# Altium footprint library RectangularConnectors.PcbLib: 154 footprints (part 6 of 10)
Each footprint in its own frame and in the unit in brackets; x right, y up, seen from the top. Pads: shape width x height; smd on the part's side, far side on the other; paste and mask are expansions set on the pad; w line width, h text height; cw(c..) or ccw(c..) is an arc to the next point about the centre after c.
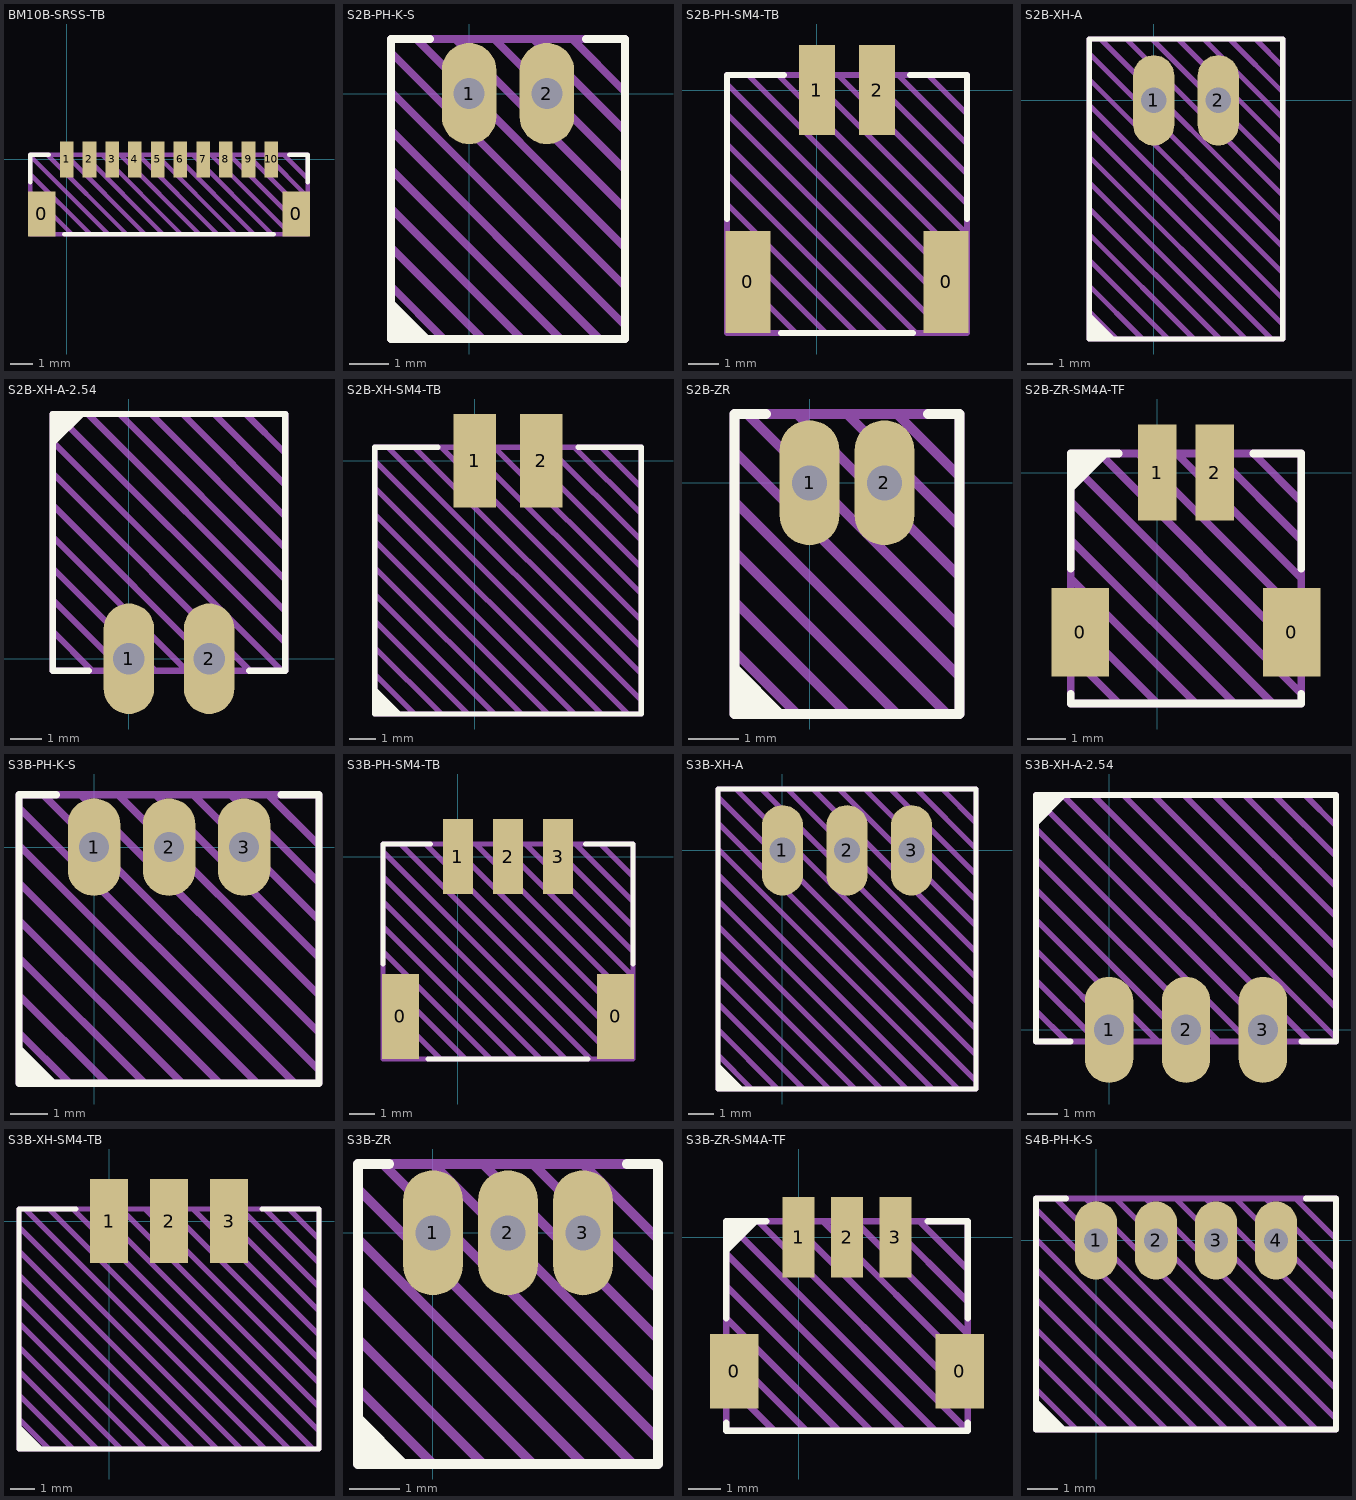
[diagram p5: the footprints below, top view; thin cyan lines are the x and y axes]

## BM10B-SRSS-TB [mm] "SH1.0"
pads (12):
  rect 1.2x2 smd: 0(-1.1,-2.4) 0(10.1,-2.4)
  rect 0.6x1.6 smd: 1(0,0) 2(1,0) 3(2,0) 4(3,0) 5(4,0) 6(5,0) 7(6,0) 8(7,0) 9(8,0) 10(9,0)
Top Overlay:
  lines w0.2: -1.6,-1 -1.6,0.2 -0.8,0.2 ; -0.1,-3.3 9.1,-3.3 ; 9.8,0.2 10.6,0.2 10.6,-1
Top Draw:
  lines w0.2: -1.6,-2.25 -0.55,-3.3 ; -1.6,-1.45 0.25,-3.3 ; -1.6,-0.65 1.05,-3.3 ; -1.6,0.15 1.85,-3.3 ; -0.85,0.2 2.65,-3.3 ; -0.05,0.2 3.45,-3.3 ; 0.75,0.2 4.25,-3.3 ; 1.55,0.2 5.05,-3.3 ; 2.35,0.2 5.85,-3.3 ; 3.15,0.2 6.65,-3.3 ; 3.95,0.2 7.45,-3.3 ; 4.75,0.2 8.25,-3.3 ; 5.55,0.2 9.05,-3.3 ; 6.35,0.2 9.85,-3.3 ; 7.15,0.2 10.6,-3.25 ; 7.95,0.2 10.6,-2.45 ; 8.75,0.2 10.6,-1.65 ; 9.55,0.2 10.6,-0.85 ; -1.6,-3.3 -1.6,0.2 10.6,0.2 10.6,-3.3 -1.6,-3.3
Top Info:
  text "'.Comment'" at 1.314,-4.537 h0.75
3D body "1734595-10.step": height 4.3, standoff 0, extent -1.65,-3.35 10.65,0.25

## S2B-PH-K-S [mm] "PH2.0 PTH Right Angle"
pads (2):
  oval 1.4x2.6 hole 0.8: 1(0,0) 2(2,0)
Top Overlay:
  region: -0.96,-6.3 -2,-5.26 -2,-6.3
  lines w0.2: -1,1.4 -2,1.4 -2,-6.3 4,-6.3 4,1.4 3,1.4
Top Draw:
  lines w0.2: -2,-4.95 -0.65,-6.3 ; -2,-3.95 0.35,-6.3 ; -2,-2.95 1.35,-6.3 ; -2,-1.95 2.35,-6.3 ; -2,-0.95 3.35,-6.3 ; -2,0.05 4,-5.95 ; -2,1.05 4,-4.95 ; -1.35,1.4 4,-3.95 ; -0.35,1.4 4,-2.95 ; 0.65,1.4 4,-1.95 ; 1.65,1.4 4,-0.95 ; 2.65,1.4 4,0.05 ; -2,-6.3 -2,1.4 4,1.4 4,-6.3 -2,-6.3
Top Info:
  text "'.Comment'" at -3.249,-7.783 h1
3D body "S2B-PH-K-S.stp": height 4.62, standoff -3.38, extent -1.95,-6.25 3.95,1.35

## S2B-PH-SM4-TB [mm] "PH2.0 SMT Right Angle"
pads (4):
  rect 1.5x3.4 smd: 0(-2.3,-6.4) 0(4.3,-6.4)
  rect 1.2x3 smd: 1(0,0) 2(2,0)
Top Overlay:
  lines w0.2: -3,-4.3 -3,0.5 -1.1,0.5 ; -1.2,-8.1 3.2,-8.1 ; 3.1,0.5 5,0.5 5,-4.3
Top Draw:
  lines w0.2: -3,-6.8 -1.7,-8.1 ; -3,-5.8 -0.7,-8.1 ; -3,-4.8 0.3,-8.1 ; -3,-3.8 1.3,-8.1 ; -3,-2.8 2.3,-8.1 ; -3,-1.8 3.3,-8.1 ; -3,-0.8 4.3,-8.1 ; -3,0.2 5,-7.8 ; -2.3,0.5 5,-6.8 ; -1.3,0.5 5,-5.8 ; -0.3,0.5 5,-4.8 ; 0.7,0.5 5,-3.8 ; 1.7,0.5 5,-2.8 ; 2.7,0.5 5,-1.8 ; 3.7,0.5 5,-0.8 ; -3,-8.1 5,-8.1 5,0.5 -3,0.5 -3,-8.1
Top Info:
  text "'.Comment'" at -3.249,-9.583 h1
3D body "S2B-PH-SM4-TB.step": height 5.52, standoff 0.02, extent -2.95,-8.1 4.95,0.5

## S2B-XH-A [mm] "XH2.5 PTH Right Angle"
pads (2):
  oval 1.6x3.5 hole 1: 1(0,0) 2(2.5,0)
Top Overlay:
  region: -1.46,-9.25 -2.5,-8.21 -2.5,-9.25
  lines w0.2: -2.5,-9.25 5,-9.25 5,2.375 -2.5,2.375 -2.5,-9.25
Top Draw:
  lines w0.2: -2.5,-8.188 -1.438,-9.25 ; -2.5,-7.188 -0.438,-9.25 ; -2.5,-6.188 0.562,-9.25 ; -2.5,-5.188 1.562,-9.25 ; -2.5,-4.188 2.562,-9.25 ; -2.5,-3.188 3.562,-9.25 ; -2.5,-2.188 4.562,-9.25 ; -2.5,-1.188 5,-8.688 ; -2.5,-0.188 5,-7.688 ; -2.5,0.813 5,-6.687 ; -2.5,1.813 5,-5.687 ; -2.062,2.375 5,-4.687 ; -1.062,2.375 5,-3.687 ; -0.062,2.375 5,-2.687 ; 0.938,2.375 5,-1.687 ; 1.938,2.375 5,-0.687 ; 2.938,2.375 5,0.313 ; 3.938,2.375 5,1.313 ; -2.5,-9.25 5,-9.25 5,2.375 -2.5,2.375 -2.5,-9.25
Top Info:
  text "'.Comment'" at -2.999,-10.708 h1
3D body "S2B-XH-A.step": height 5.77, standoff -3.48, extent -2.45,-9.2 4.95,2.3

## S2B-XH-A-2.54 [mm] "XH2.54 PTH Right Angle"
pads (2):
  oval 1.6x3.5 hole 1: 1(0,0) 2(2.54,0)
Top Overlay:
  region: -2.413,6.707 -1.373,7.747 -2.413,7.747
  lines w0.2: -1.27,-0.381 -2.413,-0.381 -2.413,7.747 4.953,7.747 4.953,-0.381 3.81,-0.381
Top Draw:
  lines w0.2: -2.413,0.866 -1.166,-0.381 ; -2.413,1.866 -0.166,-0.381 ; -2.413,2.866 0.834,-0.381 ; -2.413,3.866 1.834,-0.381 ; -2.413,4.866 2.834,-0.381 ; -2.413,5.866 3.834,-0.381 ; -2.413,6.866 4.834,-0.381 ; -2.294,7.747 4.953,0.5 ; -1.294,7.747 4.953,1.5 ; -0.294,7.747 4.953,2.5 ; 0.706,7.747 4.953,3.5 ; 1.706,7.747 4.953,4.5 ; 2.706,7.747 4.953,5.5 ; 3.706,7.747 4.953,6.5 ; -2.413,-0.381 -2.413,7.747 4.953,7.747 4.953,-0.381 -2.413,-0.381
Top Info:
  text "'.Comment'" at -2.979,-3.25 h1
3D body "JST - XH - Thru (R) - 2Pin - 2.54mm.stp": height 5.84, standoff -3.38, extent -2.337,-0.325 4.877,7.711

## S2B-XH-SM4-TB [mm] "XH2.5 SMT Right Angle"
pads (2):
  rect 1.6x3.5 smd: 1(0,0) 2(2.5,0)
Top Overlay:
  region: -3.75,-8.46 -2.71,-9.5 -3.75,-9.5
  lines w0.2: -1.375,0.5 -3.75,0.5 -3.75,-9.5 6.25,-9.5 6.25,0.5 3.875,0.5
Top Draw:
  lines w0.2: -3.75,-8 -2.25,-9.5 ; -3.75,-7 -1.25,-9.5 ; -3.75,-6 -0.25,-9.5 ; -3.75,-5 0.75,-9.5 ; -3.75,-4 1.75,-9.5 ; -3.75,-3 2.75,-9.5 ; -3.75,-2 3.75,-9.5 ; -3.75,-1 4.75,-9.5 ; -3.75,0 5.75,-9.5 ; -3.25,0.5 6.25,-9 ; -2.25,0.5 6.25,-8 ; -1.25,0.5 6.25,-7 ; -0.25,0.5 6.25,-6 ; 0.75,0.5 6.25,-5 ; 1.75,0.5 6.25,-4 ; 2.75,0.5 6.25,-3 ; 3.75,0.5 6.25,-2 ; 4.75,0.5 6.25,-1 ; -3.75,-9.5 -3.75,0.5 6.25,0.5 6.25,-9.5 -3.75,-9.5
Top Info:
  text "'.Comment'" at -2.999,-10.958 h1
3D body "S2B-XH-SM4-TB.step": height 6, standoff 0, extent -3.75,-9.5 6.25,0.5

## S2B-ZR [mm] "ZH1.5 PTH Right Angle"
pads (2):
  oval 1.2x2.5 hole 0.7: 1(0,0) 2(1.5,0)
Top Overlay:
  region: -0.46,-4.625 -1.5,-3.585 -1.5,-4.625
  lines w0.2: -0.875,1.375 -1.5,1.375 -1.5,-4.625 3,-4.625 3,1.375 2.375,1.375
Top Draw:
  lines w0.2: -1.5,-3.375 -0.25,-4.625 ; -1.5,-2.375 0.75,-4.625 ; -1.5,-1.375 1.75,-4.625 ; -1.5,-0.375 2.75,-4.625 ; -1.5,0.625 3,-3.875 ; -1.25,1.375 3,-2.875 ; -0.25,1.375 3,-1.875 ; 0.75,1.375 3,-0.875 ; 1.75,1.375 3,0.125 ; -1.5,-4.625 3,-4.625 3,1.375 -1.5,1.375 -1.5,-4.625
Top Info:
  text "'.Comment'" at -2.436,-5.812 h0.75
3D body "S2B-ZR.step": height 3.72, standoff -2.68, extent -1.5,-4.6 3,1.4

## S2B-ZR-SM4A-TF [mm] "ZH1.5 SMT Right Angle"
pads (4):
  rect 1.5x2.3 smd: 0(-2,-4.15) 0(3.5,-4.15)
  rect 1x2.5 smd: 1(0,0) 2(1.5,0)
Top Overlay:
  region: -1.21,0.5 -2.25,-0.54 -2.25,0.5
  lines w0.2: -2.25,-5.75 -2.25,-6 3.75,-6 3.75,-5.75 ; -2.25,-2.5 -2.25,0.5 -1,0.5 ; 2.5,0.5 3.75,0.5 3.75,-2.5
Top Draw:
  lines w0.2: -2.25,-4.75 -1,-6 ; -2.25,-3.75 0,-6 ; -2.25,-2.75 1,-6 ; -2.25,-1.75 2,-6 ; -2.25,-0.75 3,-6 ; -2.25,0.25 3.75,-5.75 ; -1.5,0.5 3.75,-4.75 ; -0.5,0.5 3.75,-3.75 ; 0.5,0.5 3.75,-2.75 ; 1.5,0.5 3.75,-1.75 ; 2.5,0.5 3.75,-0.75 ; -2.25,-6 3.75,-6 3.75,0.5 -2.25,0.5 -2.25,-6
Top Info:
  text "'.Comment'" at -2.436,-7.187 h0.75
3D body "S2B-ZR-SM4A-TF.step": height 3.72, standoff 0.02, extent -2.25,-6 3.75,0.5

## S3B-PH-K-S [mm] "PH2.0 PTH Right Angle"
pads (3):
  oval 1.4x2.6 hole 0.8: 1(0,0) 2(2,0) 3(4,0)
Top Overlay:
  region: -0.96,-6.3 -2,-5.26 -2,-6.3
  lines w0.2: -1,1.4 -2,1.4 -2,-6.3 6,-6.3 6,1.4 ; 5,1.4 6,1.4 ; 6,1.4 6,1.4
Top Draw:
  lines w0.2: -2,-4.95 -0.65,-6.3 ; -2,-3.95 0.35,-6.3 ; -2,-2.95 1.35,-6.3 ; -2,-1.95 2.35,-6.3 ; -2,-0.95 3.35,-6.3 ; -2,0.05 4.35,-6.3 ; -2,1.05 5.35,-6.3 ; -1.35,1.4 6,-5.95 ; -0.35,1.4 6,-4.95 ; 0.65,1.4 6,-3.95 ; 1.65,1.4 6,-2.95 ; 2.65,1.4 6,-1.95 ; 3.65,1.4 6,-0.95 ; 4.65,1.4 6,0.05 ; -2,-6.3 -2,1.4 6,1.4 6,-6.3 -2,-6.3
Top Info:
  text "'.Comment'" at -2.249,-7.783 h1
3D body "S3B-PH-K-S.stp": height 4.62, standoff -3.38, extent -1.95,-6.25 5.95,1.35

## S3B-PH-SM4-TB [mm] "PH2.0 SMT Right Angle"
pads (5):
  rect 1.5x3.4 smd: 0(-2.3,-6.4) 0(6.3,-6.4)
  rect 1.2x3 smd: 1(0,0) 2(2,0) 3(4,0)
Top Overlay:
  lines w0.2: -3,-4.3 -3,0.5 -1.1,0.5 ; -1.2,-8.1 5.2,-8.1 ; 5.1,0.5 7,0.5 7,-4.3
Top Draw:
  lines w0.2: -3,-6.8 -1.7,-8.1 ; -3,-5.8 -0.7,-8.1 ; -3,-4.8 0.3,-8.1 ; -3,-3.8 1.3,-8.1 ; -3,-2.8 2.3,-8.1 ; -3,-1.8 3.3,-8.1 ; -3,-0.8 4.3,-8.1 ; -3,0.2 5.3,-8.1 ; -2.3,0.5 6.3,-8.1 ; -1.3,0.5 7,-7.8 ; -0.3,0.5 7,-6.8 ; 0.7,0.5 7,-5.8 ; 1.7,0.5 7,-4.8 ; 2.7,0.5 7,-3.8 ; 3.7,0.5 7,-2.8 ; 4.7,0.5 7,-1.8 ; 5.7,0.5 7,-0.8 ; -3,-8.1 7,-8.1 7,0.5 -3,0.5 -3,-8.1
Top Info:
  text "'.Comment'" at -2.249,-9.583 h1
3D body "S3B-PH-SM4-TB.step": height 5.52, standoff 0.02, extent -2.95,-8.1 6.95,0.5

## S3B-XH-A [mm] "XH2.5 PTH Right Angle"
pads (3):
  oval 1.6x3.5 hole 1: 1(0,0) 2(2.5,0) 3(5,0)
Top Overlay:
  region: -1.46,-9.25 -2.5,-8.21 -2.5,-9.25
  lines w0.2: -2.5,-9.25 -2.5,2.375 7.5,2.375 7.5,-9.25 -2.5,-9.25
Top Draw:
  lines w0.2: -2.5,-7.938 -1.188,-9.25 ; -2.5,-6.938 -0.188,-9.25 ; -2.5,-5.938 0.812,-9.25 ; -2.5,-4.938 1.812,-9.25 ; -2.5,-3.938 2.812,-9.25 ; -2.5,-2.938 3.812,-9.25 ; -2.5,-1.938 4.812,-9.25 ; -2.5,-0.938 5.812,-9.25 ; -2.5,0.062 6.812,-9.25 ; -2.5,1.062 7.5,-8.938 ; -2.5,2.063 7.5,-7.938 ; -1.812,2.375 7.5,-6.937 ; -0.812,2.375 7.5,-5.937 ; 0.188,2.375 7.5,-4.937 ; 1.188,2.375 7.5,-3.937 ; 2.188,2.375 7.5,-2.937 ; 3.188,2.375 7.5,-1.937 ; 4.188,2.375 7.5,-0.937 ; 5.188,2.375 7.5,0.063 ; 6.188,2.375 7.5,1.063 ; -2.5,-9.25 -2.5,2.375 7.5,2.375 7.5,-9.25 -2.5,-9.25
Top Info:
  text "'.Comment'" at -1.749,-10.708 h1
3D body "S3B-XH-A.step": height 5.77, standoff -3.48, extent -2.45,-9.2 7.45,2.3

## S3B-XH-A-2.54 [mm] "XH2.54 PTH Right Angle"
pads (3):
  oval 1.6x3.5 hole 1: 1(0,0) 2(2.54,0) 3(5.08,0)
Top Overlay:
  region: -2.413,6.707 -1.373,7.747 -2.413,7.747
  lines w0.2: -1.27,-0.381 -2.413,-0.381 -2.413,7.747 7.493,7.747 7.493,-0.381 6.35,-0.381
Top Draw:
  lines w0.2: -2.413,0.636 -1.396,-0.381 ; -2.413,1.636 -0.396,-0.381 ; -2.413,2.636 0.604,-0.381 ; -2.413,3.636 1.604,-0.381 ; -2.413,4.636 2.604,-0.381 ; -2.413,5.636 3.604,-0.381 ; -2.413,6.636 4.604,-0.381 ; -2.413,7.636 5.604,-0.381 ; -1.524,7.747 6.604,-0.381 ; -0.524,7.747 7.493,-0.27 ; 0.476,7.747 7.493,0.73 ; 1.476,7.747 7.493,1.73 ; 2.476,7.747 7.493,2.73 ; 3.476,7.747 7.493,3.73 ; 4.476,7.747 7.493,4.73 ; 5.476,7.747 7.493,5.73 ; 6.476,7.747 7.493,6.73 ; -2.413,-0.381 -2.413,7.747 7.493,7.747 7.493,-0.381 -2.413,-0.381
Top Info:
  text "'.Comment'" at -1.709,-3.25 h1
3D body "JST - XH - Thru (R) - 3Pin - 2.54mm.stp": height 5.84, standoff -3.38, extent -2.337,-0.325 7.417,7.712

## S3B-XH-SM4-TB [mm] "XH2.5 SMT Right Angle"
pads (3):
  rect 1.6x3.5 smd: 1(0,0) 2(2.5,0) 3(5,0)
Top Overlay:
  region: -3.75,-8.46 -2.71,-9.5 -3.75,-9.5
  lines w0.2: -1.375,0.5 -3.75,0.5 -3.75,-9.5 8.75,-9.5 8.75,0.5 6.375,0.5
Top Draw:
  lines w0.2: -3.75,-8.25 -2.5,-9.5 ; -3.75,-7.25 -1.5,-9.5 ; -3.75,-6.25 -0.5,-9.5 ; -3.75,-5.25 0.5,-9.5 ; -3.75,-4.25 1.5,-9.5 ; -3.75,-3.25 2.5,-9.5 ; -3.75,-2.25 3.5,-9.5 ; -3.75,-1.25 4.5,-9.5 ; -3.75,-0.25 5.5,-9.5 ; -3.5,0.5 6.5,-9.5 ; -2.5,0.5 7.5,-9.5 ; -1.5,0.5 8.5,-9.5 ; -0.5,0.5 8.75,-8.75 ; 0.5,0.5 8.75,-7.75 ; 1.5,0.5 8.75,-6.75 ; 2.5,0.5 8.75,-5.75 ; 3.5,0.5 8.75,-4.75 ; 4.5,0.5 8.75,-3.75 ; 5.5,0.5 8.75,-2.75 ; 6.5,0.5 8.75,-1.75 ; 7.5,0.5 8.75,-0.75 ; -3.75,-9.5 8.75,-9.5 8.75,0.5 -3.75,0.5 -3.75,-9.5
Top Info:
  text "'.Comment'" at -1.749,-10.958 h1
3D body "S3B-XH-SM4-TB.step": height 6, standoff 0, extent -3.75,-9.5 8.75,0.5

## S3B-ZR [mm] "ZH1.5 PTH Right Angle"
pads (3):
  oval 1.2x2.5 hole 0.7: 1(0,0) 2(1.5,0) 3(3,0)
Top Overlay:
  region: -0.46,-4.625 -1.5,-3.585 -1.5,-4.625
  lines w0.2: -0.875,1.375 -1.5,1.375 -1.5,-4.625 4.5,-4.625 4.5,1.375 3.875,1.375
Top Draw:
  lines w0.2: -1.5,-3.125 0,-4.625 ; -1.5,-2.125 1,-4.625 ; -1.5,-1.125 2,-4.625 ; -1.5,-0.125 3,-4.625 ; -1.5,0.875 4,-4.625 ; -1,1.375 4.5,-4.125 ; 0,1.375 4.5,-3.125 ; 1,1.375 4.5,-2.125 ; 2,1.375 4.5,-1.125 ; 3,1.375 4.5,-0.125 ; -1.5,-4.625 4.5,-4.625 4.5,1.375 -1.5,1.375 -1.5,-4.625
Top Info:
  text "'.Comment'" at -1.686,-5.812 h0.75
3D body "S3B-ZR.step": height 3.72, standoff -2.68, extent -1.5,-4.6 4.5,1.4

## S3B-ZR-SM4A-TF [mm] "ZH1.5 SMT Right Angle"
pads (5):
  rect 1.5x2.3 smd: 0(-2,-4.15) 0(5,-4.15)
  rect 1x2.5 smd: 1(0,0) 2(1.5,0) 3(3,0)
Top Overlay:
  region: -1.21,0.5 -2.25,-0.54 -2.25,0.5
  lines w0.2: -2.25,-5.75 -2.25,-6 5.25,-6 5.25,-5.75 ; -2.25,-2.5 -2.25,0.5 -1,0.5 ; 4,0.5 5.25,0.5 5.25,-2.5
Top Draw:
  lines w0.2: -2.25,-4.5 -0.75,-6 ; -2.25,-3.5 0.25,-6 ; -2.25,-2.5 1.25,-6 ; -2.25,-1.5 2.25,-6 ; -2.25,-0.5 3.25,-6 ; -1.25,0.5 5.25,-6 ; -0.25,0.5 5.25,-5 ; 0.75,0.5 5.25,-4 ; 1.75,0.5 5.25,-3 ; 2.75,0.5 5.25,-2 ; 3.75,0.5 5.25,-1 ; 4.25,-6 -2.25,0.5 ; -2.25,0.5 -2.25,-6 5.25,-6 ; -2.25,0.5 5.25,0.5 5.25,-6
Top Info:
  text "'.Comment'" at -1.686,-7.187 h0.75
3D body "S3B-ZR-SM4A-TF.step": height 3.72, standoff 0.02, extent -2.25,-6 5.25,0.5

## S4B-PH-K-S [mm] "PH2.0 PTH Right Angle"
pads (4):
  oval 1.4x2.6 hole 0.8: 1(0,0) 2(2,0) 3(4,0) 4(6,0)
Top Overlay:
  region: -0.96,-6.3 -2,-5.26 -2,-6.3
  lines w0.2: -1,1.4 -2,1.4 -2,-6.3 8,-6.3 8,1.4 7,1.4
Top Draw:
  lines w0.2: -2,-4.95 -0.65,-6.3 ; -2,-3.95 0.35,-6.3 ; -2,-2.95 1.35,-6.3 ; -2,-1.95 2.35,-6.3 ; -2,-0.95 3.35,-6.3 ; -2,0.05 4.35,-6.3 ; -2,1.05 5.35,-6.3 ; -1.35,1.4 6.35,-6.3 ; -0.35,1.4 7.35,-6.3 ; 0.65,1.4 8,-5.95 ; 1.65,1.4 8,-4.95 ; 2.65,1.4 8,-3.95 ; 3.65,1.4 8,-2.95 ; 4.65,1.4 8,-1.95 ; 5.65,1.4 8,-0.95 ; 6.65,1.4 8,0.05 ; -2,-6.3 -2,1.4 8,1.4 8,-6.3 -2,-6.3
Top Info:
  text "'.Comment'" at -1.249,-7.783 h1
3D body "S4B-PH-K-S.stp": height 4.62, standoff -3.38, extent -1.95,-6.25 7.95,1.35